# Altium footprint library IND_DRC-V-822K.PcbLib: 1 footprints
Each footprint in its own frame and in the unit in brackets; x right, y up, seen from the top. Pads: shape width x height; smd on the part's side, far side on the other; paste and mask are expansions set on the pad; w line width, h text height; cw(c..) or ccw(c..) is an arc to the next point about the centre after c.
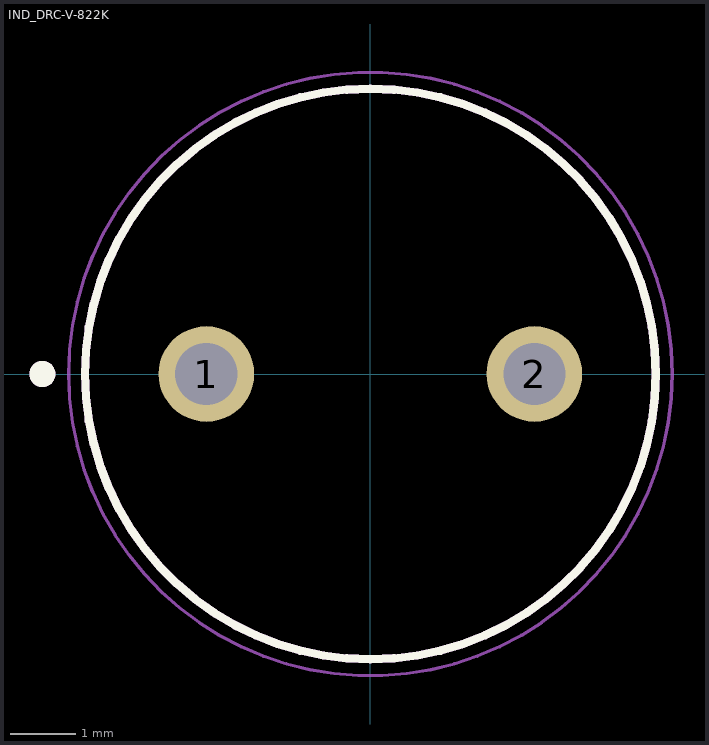
[diagram p0: the footprint, top view; thin cyan lines are the x and y axes]

## IND_DRC-V-822K [mm]
height 12.5
pads (2):
  round 1.458 hole 0.95: 1(-2.5,0) 2(2.5,0)
Top Overlay:
  circle w0.127: c0,0 r4.35
  circle w0.2: c-5,0 r0.1
Mechanical 13:
  circle w0.127: c0,0 r4.35
  circle w0.2: c-5,0 r0.1
Mechanical 15:
  circle w0.05: c0,0 r4.6
3D body "step_temp.STEP": height 12.5, standoff -6, extent -4.35,-4.35 4.35,4.35